# Altium integrated library Analog Devices Data Converters Analog-to-Digital Converters.IntLib: 2404 symbols (part 259 of 346)
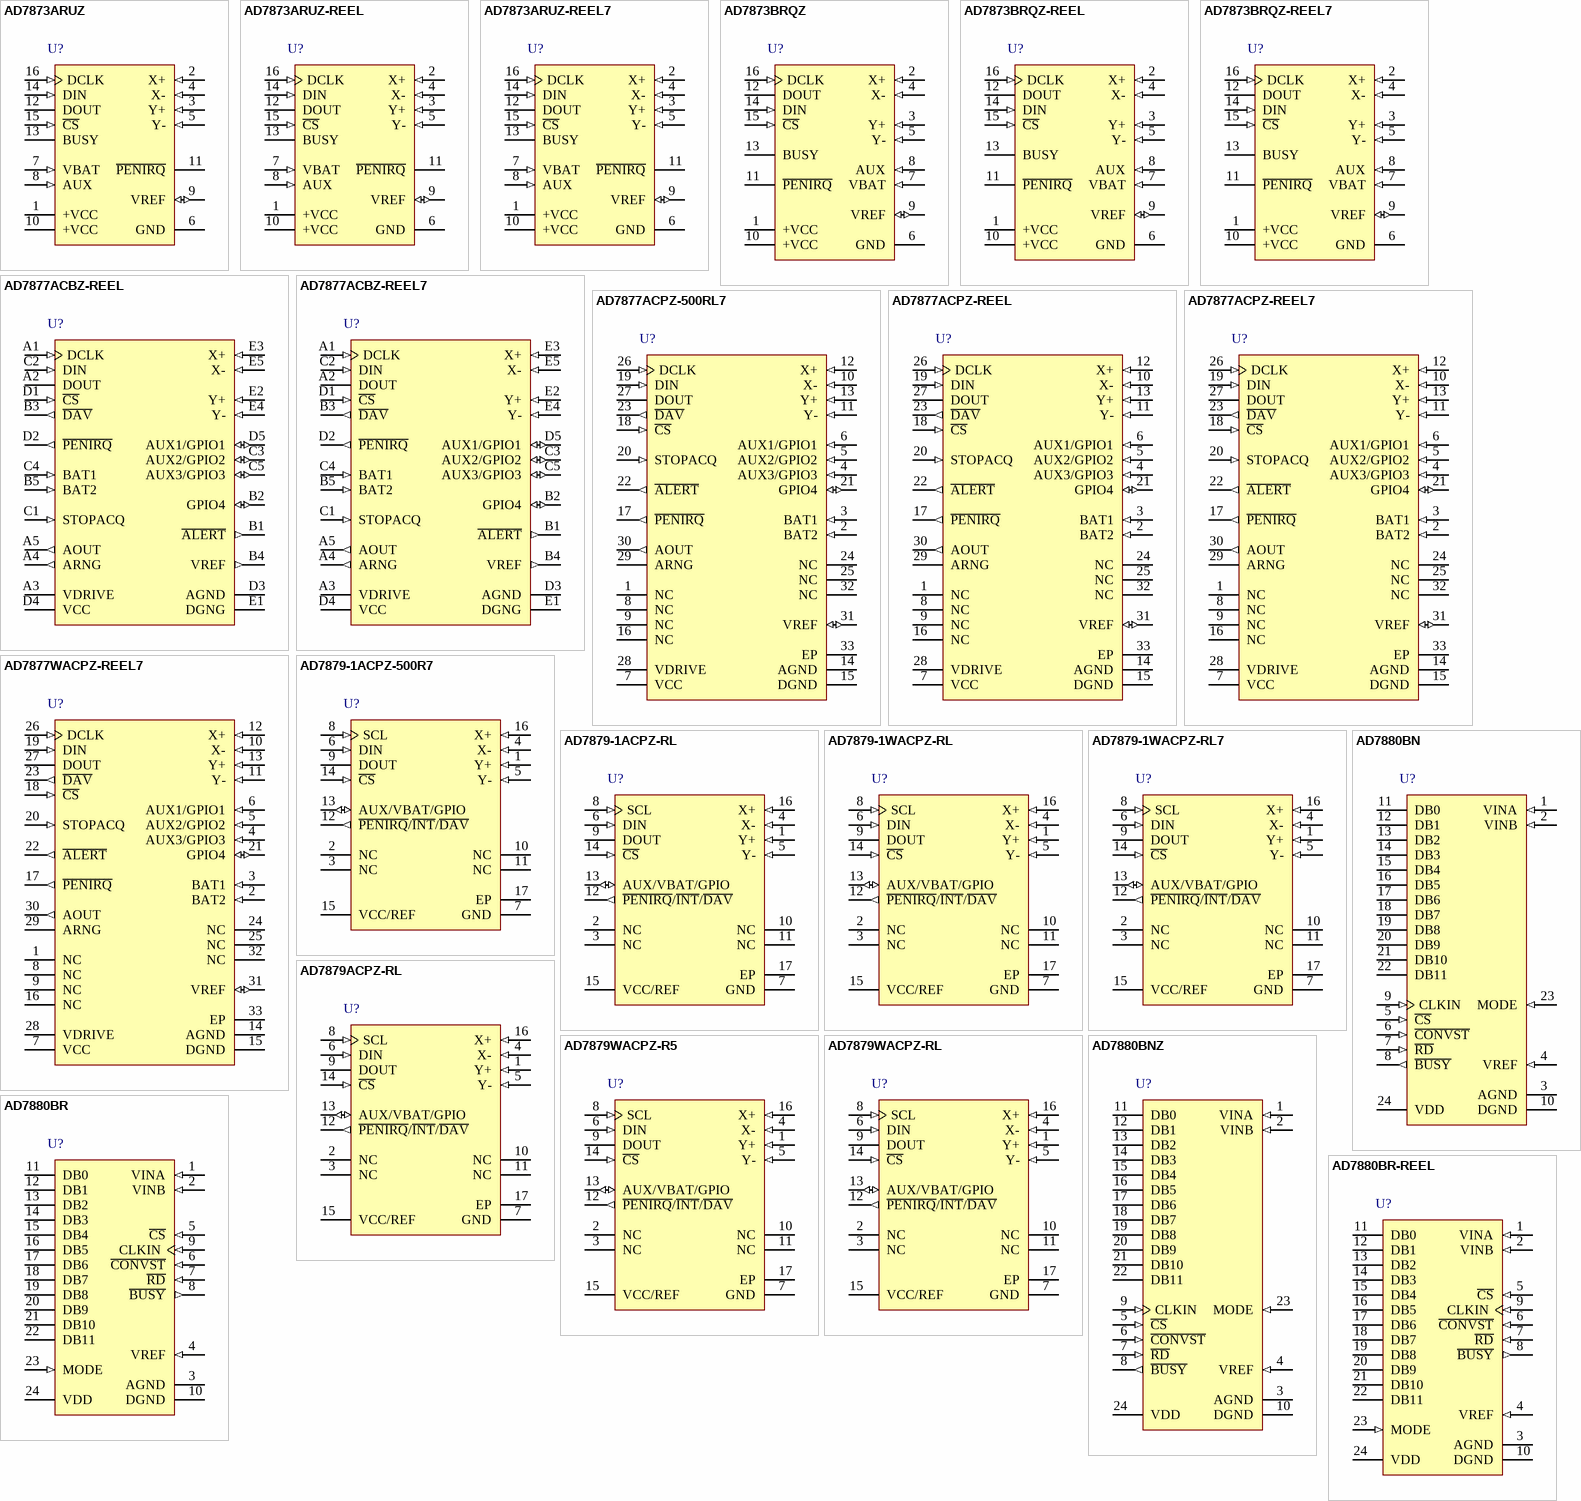
[diagram p392: symbols AD7873ARUZ to AD7880BR-REEL]

## AD7873ARUZ
designator U?
6 Channel Touch Screen Digitizer with Serial Interface, 125KSPS, -40 to +85 degC, RU-16, Pb-Free, Tube; Generic Part Number: AD7873; Manufacturer: Analog Devices; PartNumber: AD7873ARUZ; Resolution (Bits): 12; Channels: 6; Throughput Rate (SPS): 125K; Interface: Ser; DatasheetVersion: Rev.E; PackageVersion: Nov-2002; PackageReference: RU-16; PackageDescription: 16-Lead Thin Shrink Small Outline Package [TSSOP]; Supplier 1: Digi-Key; Supplier Part Number 1: AD7873ARUZ-ND; Supplier 2: Mouser; Supplier Part Number 2: 584-AD7873ARUZ; RoHS: Y; Packing: Tube; Mounting Technology: Surface Mount; Code_JEDEC: MO-153-AB; ComponentLink1Description: Manufacturer URL; ComponentLink1URL: http://www.analog.com/en/index.html; ComponentLink2Description: Datasheet; ComponentLink2URL: http://www.analog.com/static/imported-files/data_sheets/AD7873.pdf; ComponentLink3Description: Package Specification; ComponentLink3URL: http://www.analog.com/static/imported-files/packages/36244347913743854010197452789RU16.pdf; ComponentLink4Description: Product URL; ComponentLink4URL: http://www.analog.com/en/analog-to-digital-converters/ad-converters/ad7873/products/product.html
footprint RU-16_N (TSOP, 16-Leads, Body 5x4.4mm, Pitch 0.65mm, IPC Medium Density)
footprint RU-16_L (TSOP, 16-Leads, Body 5x4.4mm, Pitch 0.65mm, IPC High Density)
footprint RU-16_M (TSOP, 16-Leads, Body 5x4.4mm, Pitch 0.65mm, IPC Low Density)
pins: 1 +VCC (power) "Power Supply Input. The +VCC range for the AD7873 is from 2.2 V to 5.25 V. Both +VCC pins should be connected directly together.", 2 X+ (in) "X+ Position Input. ADC Input Channel 1.", 3 Y+ (in) "Y+ Position Input. ADC Input Channel 2.", 4 X- (in) "X- Position Input.", 5 Y- (in) "Y- Position Input. ADC Input Channel 3.", 6 GND (power) "Analog Ground. Ground reference point for all circuitry on the AD7873. All analog input signals and any external reference signals should be referred to this GND voltage.", 7 VBAT (in) "Battery Monitor Input. ADC Input Channel 4.", 8 AUX (in) "Auxiliary Input. ADC Input Channel 5.", 9 VREF (io) "Reference Output for the AD7873. Alternatively, an external reference can be applied to this input. The voltage range for the external reference is 1.0 V to +VCC. For specified performance, it is 2.5 V on the AD7873. The (See Datasheet)", 10 +VCC (power) "Power Supply Input. The +VCC range for the AD7873 is from 2.2 V to 5.25 V. Both +VCC pins should be connected directly together.", 11 ~{PENIRQ} (oc) "Pen Interrupt. CMOS logic open-drain output (requires 10 k ohm to 100 k ohm pull-up resistor externally).", 12 DOUT (hiz) "Data Out. Logic output. The conversion result from the AD7873 is provided on this output as a serial data stream. The bits are clocked out on the falling edge of the DCLK input. This output is high impedance when C\S\ is (See Datasheet)", 13 BUSY (hiz) "BUSY Output. Logic output. This output is high impedance when C\S\ is high.", 14 DIN (in) "Data In. Logic Input. Data to be written to the AD7873 control register is provided on this input and is clocked into the register on the rising edge of DCLK (see the Control Register section).", 15 ~{CS} (in) "Chip Select Input. Active low logic input. This input provides the dual function of initiating conversions on the AD7873 and enabling the serial input/output register.", 16 DCLK (in) "External Clock Input. Logic input. DCLK provides the serial clock for accessing data from the part. This clock input is also used as the clock source for the AD7873 conversion process."

## AD7873ARUZ-REEL
designator U?
6 Channel Touch Screen Digitizer with Serial Interface, 125KSPS, -40 to +85 degC, RU-16, Pb-Free, Reel; Generic Part Number: AD7873; Manufacturer: Analog Devices; PartNumber: AD7873ARUZ-REEL; Resolution (Bits): 12; Channels: 6; Throughput Rate (SPS): 125K; Interface: Ser; DatasheetVersion: Rev.E; PackageVersion: Nov-2002; PackageReference: RU-16; PackageDescription: 16-Lead Thin Shrink Small Outline Package [TSSOP]; Supplier 1: Digi-Key; Supplier Part Number 1: AD7873ARUZ-REEL-ND; Supplier 2: Mouser; Supplier Part Number 2: 584-AD7873ARUZ-R; RoHS: Y; Packing: Reel; Mounting Technology: Surface Mount; Code_JEDEC: MO-153-AB; ComponentLink1Description: Manufacturer URL; ComponentLink1URL: http://www.analog.com/en/index.html; ComponentLink2Description: Datasheet; ComponentLink2URL: http://www.analog.com/static/imported-files/data_sheets/AD7873.pdf; ComponentLink3Description: Package Specification; ComponentLink3URL: http://www.analog.com/static/imported-files/packages/36244347913743854010197452789RU16.pdf; ComponentLink4Description: Product URL; ComponentLink4URL: http://www.analog.com/en/analog-to-digital-converters/ad-converters/ad7873/products/product.html
footprint RU-16_N (TSOP, 16-Leads, Body 5x4.4mm, Pitch 0.65mm, IPC Medium Density)
footprint RU-16_L (TSOP, 16-Leads, Body 5x4.4mm, Pitch 0.65mm, IPC High Density)
footprint RU-16_M (TSOP, 16-Leads, Body 5x4.4mm, Pitch 0.65mm, IPC Low Density)
pins: 1 +VCC (power) "Power Supply Input. The +VCC range for the AD7873 is from 2.2 V to 5.25 V. Both +VCC pins should be connected directly together.", 2 X+ (in) "X+ Position Input. ADC Input Channel 1.", 3 Y+ (in) "Y+ Position Input. ADC Input Channel 2.", 4 X- (in) "X- Position Input.", 5 Y- (in) "Y- Position Input. ADC Input Channel 3.", 6 GND (power) "Analog Ground. Ground reference point for all circuitry on the AD7873. All analog input signals and any external reference signals should be referred to this GND voltage.", 7 VBAT (in) "Battery Monitor Input. ADC Input Channel 4.", 8 AUX (in) "Auxiliary Input. ADC Input Channel 5.", 9 VREF (io) "Reference Output for the AD7873. Alternatively, an external reference can be applied to this input. The voltage range for the external reference is 1.0 V to +VCC. For specified performance, it is 2.5 V on the AD7873. The (See Datasheet)", 10 +VCC (power) "Power Supply Input. The +VCC range for the AD7873 is from 2.2 V to 5.25 V. Both +VCC pins should be connected directly together.", 11 ~{PENIRQ} (oc) "Pen Interrupt. CMOS logic open-drain output (requires 10 k ohm to 100 k ohm pull-up resistor externally).", 12 DOUT (hiz) "Data Out. Logic output. The conversion result from the AD7873 is provided on this output as a serial data stream. The bits are clocked out on the falling edge of the DCLK input. This output is high impedance when C\S\ is (See Datasheet)", 13 BUSY (hiz) "BUSY Output. Logic output. This output is high impedance when C\S\ is high.", 14 DIN (in) "Data In. Logic Input. Data to be written to the AD7873 control register is provided on this input and is clocked into the register on the rising edge of DCLK (see the Control Register section).", 15 ~{CS} (in) "Chip Select Input. Active low logic input. This input provides the dual function of initiating conversions on the AD7873 and enabling the serial input/output register.", 16 DCLK (in) "External Clock Input. Logic input. DCLK provides the serial clock for accessing data from the part. This clock input is also used as the clock source for the AD7873 conversion process."

## AD7873ARUZ-REEL7
designator U?
6 Channel Touch Screen Digitizer with Serial Interface, 125KSPS, -40 to +85 degC, RU-16, Pb-Free, Reel; Generic Part Number: AD7873; Manufacturer: Analog Devices; PartNumber: AD7873ARUZ-REEL7; Resolution (Bits): 12; Channels: 6; Throughput Rate (SPS): 125K; Interface: Ser; DatasheetVersion: Rev.E; PackageVersion: Nov-2002; PackageReference: RU-16; PackageDescription: 16-Lead Thin Shrink Small Outline Package [TSSOP]; Supplier 1: Digi-Key; Supplier Part Number 1: AD7873ARUZ-REEL7-ND; Supplier 2: Mouser; Supplier Part Number 2: 584-AD7873ARUZ-R7; RoHS: Y; Packing: Reel; Mounting Technology: Surface Mount; Code_JEDEC: MO-153-AB; ComponentLink1Description: Manufacturer URL; ComponentLink1URL: http://www.analog.com/en/index.html; ComponentLink2Description: Datasheet; ComponentLink2URL: http://www.analog.com/static/imported-files/data_sheets/AD7873.pdf; ComponentLink3Description: Package Specification; ComponentLink3URL: http://www.analog.com/static/imported-files/packages/36244347913743854010197452789RU16.pdf; ComponentLink4Description: Product URL; ComponentLink4URL: http://www.analog.com/en/analog-to-digital-converters/ad-converters/ad7873/products/product.html
footprint RU-16_N (TSOP, 16-Leads, Body 5x4.4mm, Pitch 0.65mm, IPC Medium Density)
footprint RU-16_L (TSOP, 16-Leads, Body 5x4.4mm, Pitch 0.65mm, IPC High Density)
footprint RU-16_M (TSOP, 16-Leads, Body 5x4.4mm, Pitch 0.65mm, IPC Low Density)
pins: 1 +VCC (power) "Power Supply Input. The +VCC range for the AD7873 is from 2.2 V to 5.25 V. Both +VCC pins should be connected directly together.", 2 X+ (in) "X+ Position Input. ADC Input Channel 1.", 3 Y+ (in) "Y+ Position Input. ADC Input Channel 2.", 4 X- (in) "X- Position Input.", 5 Y- (in) "Y- Position Input. ADC Input Channel 3.", 6 GND (power) "Analog Ground. Ground reference point for all circuitry on the AD7873. All analog input signals and any external reference signals should be referred to this GND voltage.", 7 VBAT (in) "Battery Monitor Input. ADC Input Channel 4.", 8 AUX (in) "Auxiliary Input. ADC Input Channel 5.", 9 VREF (io) "Reference Output for the AD7873. Alternatively, an external reference can be applied to this input. The voltage range for the external reference is 1.0 V to +VCC. For specified performance, it is 2.5 V on the AD7873. The (See Datasheet)", 10 +VCC (power) "Power Supply Input. The +VCC range for the AD7873 is from 2.2 V to 5.25 V. Both +VCC pins should be connected directly together.", 11 ~{PENIRQ} (oc) "Pen Interrupt. CMOS logic open-drain output (requires 10 k ohm to 100 k ohm pull-up resistor externally).", 12 DOUT (hiz) "Data Out. Logic output. The conversion result from the AD7873 is provided on this output as a serial data stream. The bits are clocked out on the falling edge of the DCLK input. This output is high impedance when C\S\ is (See Datasheet)", 13 BUSY (hiz) "BUSY Output. Logic output. This output is high impedance when C\S\ is high.", 14 DIN (in) "Data In. Logic Input. Data to be written to the AD7873 control register is provided on this input and is clocked into the register on the rising edge of DCLK (see the Control Register section).", 15 ~{CS} (in) "Chip Select Input. Active low logic input. This input provides the dual function of initiating conversions on the AD7873 and enabling the serial input/output register.", 16 DCLK (in) "External Clock Input. Logic input. DCLK provides the serial clock for accessing data from the part. This clock input is also used as the clock source for the AD7873 conversion process."

## AD7873BRQZ
designator U?
6 Channel Touch Screen Digitizer with Serial Interface, 125KSPS, -40 to +85 degC, RQ-16, Pb-Free, Tube; Generic Part Number: AD7873; Manufacturer: Analog Devices; PartNumber: AD7873BRQZ; Resolution (Bits): 12; Channels: 6; Throughput Rate (SPS): 125K; Interface: Ser; DatasheetVersion: Rev.E; PackageVersion: Aug-2005; PackageReference: RQ-16; PackageDescription: 16-Lead Shrink Small Outline Package [QSOP]; Supplier 1: Digi-Key; Supplier Part Number 1: AD7873BRQZ-ND; Supplier 2: Mouser; Supplier Part Number 2: 584-AD7873BRQZ; RoHS: Y; Packing: Tube; Mounting Technology: Surface Mount; Code_JEDEC: MO-137-AB; ComponentLink1Description: Manufacturer URL; ComponentLink1URL: http://www.analog.com/en/index.html; ComponentLink2Description: Datasheet; ComponentLink2URL: http://www.analog.com/static/imported-files/data_sheets/AD7873.pdf; ComponentLink3Description: Package Specification; ComponentLink3URL: http://www.analog.com/static/imported-files/packages/5595549651201762937RQ_16.pdf; ComponentLink4Description: Product URL; ComponentLink4URL: http://www.analog.com/en/analog-to-digital-converters/ad-converters/ad7873/products/product.html
footprint RQ-16_N (SOP, 16-Leads, Body 4.9x3.9mm, Pitch 0.635mm, IPC Medium Density)
footprint RQ-16_L (SOP, 16-Leads, Body 4.9x3.9mm, Pitch 0.635mm, IPC High Density)
footprint RQ-16_M (SOP, 16-Leads, Body 4.9x3.9mm, Pitch 0.635mm, IPC Low Density)
pins: 1 +VCC (power) "Power Supply Input. The +VCC range for the AD7873 is from 2.2 V to 5.25 V. Both +VCC pins should be connected directly together", 2 X+ (in) "X+ Position Input. ADC Input Channel 1.", 3 Y+ (in) "Y+ Position Input. ADC Input Channel 2.", 4 X- (in) "X- Position Input.", 5 Y- (in) "Y- Position Input. ADC Input Channel 3.", 6 GND (power) "Analog Ground. Ground reference point for all circuitry on the AD7873. All analog input signals and any external reference signals should be referred to this GND voltage.", 7 VBAT (in) "Battery Monitor Input. ADC Input Channel 4", 8 AUX (in) "Auxiliary Input. ADC Input Channel 5.", 9 VREF (io) "Reference Output for the AD7873. Alternatively, an external reference can be applied to this input.The voltage range for the external reference is 1.0 V to +VCC. For specified performance, it is 2.5 V on the AD7873. The (See Datasheet)", 10 +VCC (power) "Power Supply Input. The +VCC range for the AD7873 is from 2.2 V to 5.25 V. Both +VCC pins should be connected directly together", 11 ~{PENIRQ} (oc) "Pen Interrupt. CMOS logic open-drain output (requires 10 kO to 100 kO pull-up resistor externally).", 12 DOUT (hiz) "Data Out. Logic output. The conversion result from the AD7873 is provided on this output as a serial data stream. The bits are clocked out on the falling edge of the DCLK input. This output is high impedance when C\S\ is (See Datasheet)", 13 BUSY (hiz) "BUSY Output. Logic output. This output is high impedance when C\S\ is high", 14 DIN (in) "Data In. Logic Input. Data to be written to the AD7873 control register is provided on this input and is clocked into the register on the rising edge of DCLK (see the Control Register section).", 15 ~{CS} (in) "Chip Select Input. Active low logic input. This input provides the dual function of initiating conversions on the AD7873 and enabling the serial input/output register.", 16 DCLK (in) "External Clock Input. Logic input. DCLK provides the serial clock for accessing data from the part.This clock input is also used as the clock source for the AD7873 conversion process."